# Altium schematic symbol library WR-RAST.SchLib: 73 symbols (part 2 of 2)
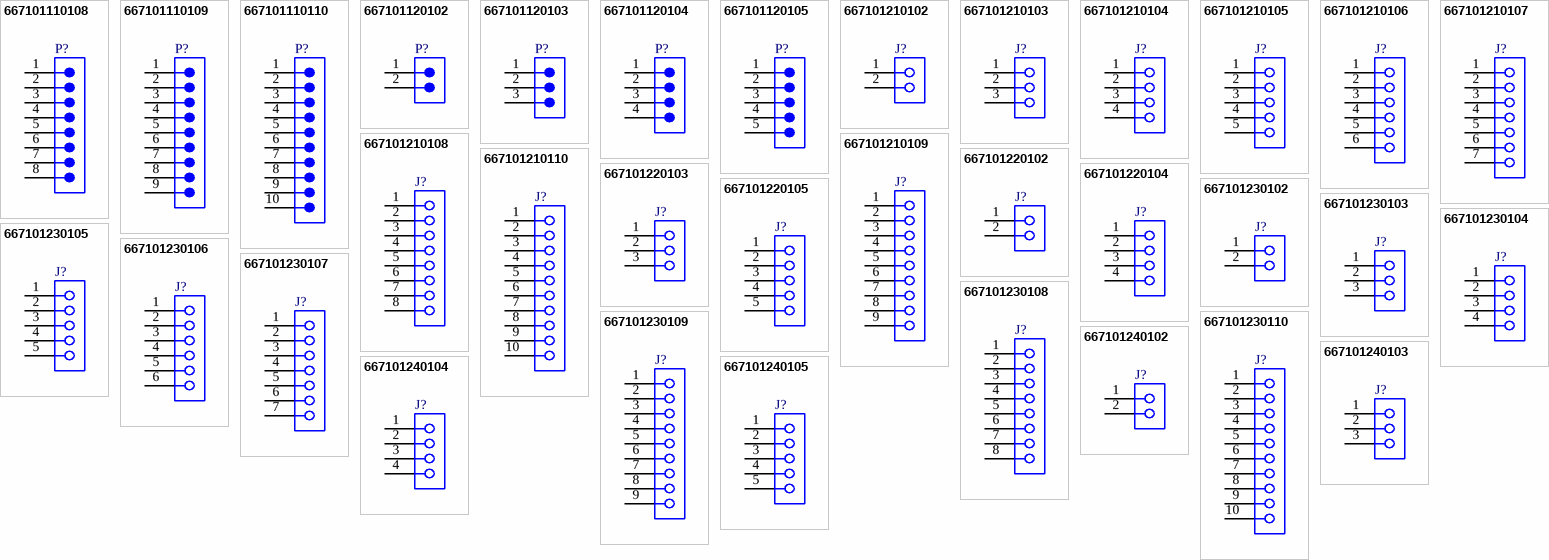
[diagram p2: symbols 667101110108 to 667101240105]

## 667101230108
designator J?  (value not drawn)
WR-RAST Female Housing IDC, SMT, Horizontal, lead pitch 2.5mm, 08p; Manufacturer: Wurth Elektronik; Rated Current: 4A; Insulator Material: PA66; Polarity: 8; Working Voltage: 32V (AC); Manufacturer Part Number: 667101230108; Category: Wire-to-Board Connector; Match Code: WR-RAST; ComponentLink1Description: Website Link; ComponentLink1URL: https://www.we-online.com; ComponentLink2Description: Datasheet Link; ComponentLink2URL: https://www.we-online.com/components/products/datasheet/667101230108; Mount: Surface Mount; Operating Temperature Min: -40degC; Operating Temperature Max: 110degC; Packaging: Tray; Gender: Female; Orientation: Horizontal; Lead Pitch: 2.5mm
footprint 667101230108
pins: 1, 2, 3, 4, 5, 6, 7, 8

## 667101230109
designator J?  (value not drawn)
WR-RAST Female Housing IDC, SMT, Horizontal, lead pitch 2.5mm, 09p; Manufacturer: Wurth Elektronik; Rated Current: 4A; Insulator Material: PA66; Polarity: 9; Working Voltage: 32V (AC); Manufacturer Part Number: 667101230109; Category: Wire-to-Board Connector; Match Code: WR-RAST; ComponentLink1Description: Website Link; ComponentLink1URL: https://www.we-online.com; ComponentLink2Description: Datasheet Link; ComponentLink2URL: https://www.we-online.com/components/products/datasheet/667101230109; Mount: Surface Mount; Operating Temperature Min: -40degC; Operating Temperature Max: 110degC; Packaging: Tray; Gender: Female; Orientation: Horizontal; Lead Pitch: 2.5mm
footprint 667101230109
pins: 1, 2, 3, 4, 5, 6, 7, 8, 9

## 667101230110
designator J?  (value not drawn)
WR-RAST Female Housing IDC, SMT, Horizontal, lead pitch 2.5mm, 10p; Manufacturer: Wurth Elektronik; Rated Current: 4A; Insulator Material: PA66; Polarity: 10; Working Voltage: 32V (AC); Manufacturer Part Number: 667101230110; Category: Wire-to-Board Connector; Match Code: WR-RAST; ComponentLink1Description: Website Link; ComponentLink1URL: https://www.we-online.com; ComponentLink2Description: Datasheet Link; ComponentLink2URL: https://www.we-online.com/components/products/datasheet/667101230110; Mount: Surface Mount; Operating Temperature Min: -40degC; Operating Temperature Max: 110degC; Packaging: Tray; Gender: Female; Orientation: Horizontal; Lead Pitch: 2.5mm
footprint 667101230110
pins: 1, 2, 3, 4, 5, 6, 7, 8, 9, 10

## 667101240102
designator J?  (value not drawn)
WR-RAST Female Housing IDC, SMT, Horizontal, lead pitch 5mm, 02p; Manufacturer: Wurth Elektronik; Rated Current: 4A; Insulator Material: PA66; Polarity: 2; Working Voltage: 250V (AC); Manufacturer Part Number: 667101240102; Category: Wire-to-Board Connector; Match Code: WR-RAST; ComponentLink1Description: Website Link; ComponentLink1URL: https://www.we-online.com; ComponentLink2Description: Datasheet Link; ComponentLink2URL: https://www.we-online.com/components/products/datasheet/667101240102; Mount: Surface Mount; Operating Temperature Min: -40degC; Operating Temperature Max: 110degC; Packaging: Tray; Gender: Female; Orientation: Horizontal; Lead Pitch: 5mm
footprint 667101240102
pins: 1, 2

## 667101240103
designator J?  (value not drawn)
WR-RAST Female Housing IDC, SMT, Horizontal, lead pitch 5mm, 03p; Manufacturer: Wurth Elektronik; Rated Current: 4A; Insulator Material: PA66; Polarity: 3; Working Voltage: 250V (AC); Manufacturer Part Number: 667101240103; Category: Wire-to-Board Connector; Match Code: WR-RAST; ComponentLink1Description: Website Link; ComponentLink1URL: https://www.we-online.com; ComponentLink2Description: Datasheet Link; ComponentLink2URL: https://www.we-online.com/components/products/datasheet/667101240103; Mount: Surface Mount; Operating Temperature Min: -40degC; Operating Temperature Max: 110degC; Packaging: Tray; Gender: Female; Orientation: Horizontal; Lead Pitch: 5mm
footprint 667101240103
pins: 1, 2, 3

## 667101240104
designator J?  (value not drawn)
WR-RAST Female Housing IDC, SMT, Horizontal, lead pitch 5mm, 04p; Manufacturer: Wurth Elektronik; Rated Current: 4A; Insulator Material: PA66; Polarity: 4; Working Voltage: 250V (AC); Manufacturer Part Number: 667101240104; Category: Wire-to-Board Connector; Match Code: WR-RAST; ComponentLink1Description: Website Link; ComponentLink1URL: https://www.we-online.com; ComponentLink2Description: Datasheet Link; ComponentLink2URL: https://www.we-online.com/components/products/datasheet/667101240104; Mount: Surface Mount; Operating Temperature Min: -40degC; Operating Temperature Max: 110degC; Packaging: Tray; Gender: Female; Orientation: Horizontal; Lead Pitch: 5mm
footprint 667101240104
pins: 1, 2, 3, 4

## 667101240105
designator J?  (value not drawn)
WR-RAST Female Housing IDC, SMT, Horizontal, lead pitch 5mm, 05p; Manufacturer: Wurth Elektronik; Rated Current: 4A; Insulator Material: PA66; Polarity: 5; Working Voltage: 250V (AC); Manufacturer Part Number: 667101240105; Category: Wire-to-Board Connector; Match Code: WR-RAST; ComponentLink1Description: Website Link; ComponentLink1URL: https://www.we-online.com; ComponentLink2Description: Datasheet Link; ComponentLink2URL: https://www.we-online.com/components/products/datasheet/667101240105; Mount: Surface Mount; Operating Temperature Min: -40degC; Operating Temperature Max: 110degC; Packaging: Tray; Gender: Female; Orientation: Horizontal; Lead Pitch: 5mm
footprint 667101240105
pins: 1, 2, 3, 4, 5